# EAGLE library part CON_6P (library FlukeNic)
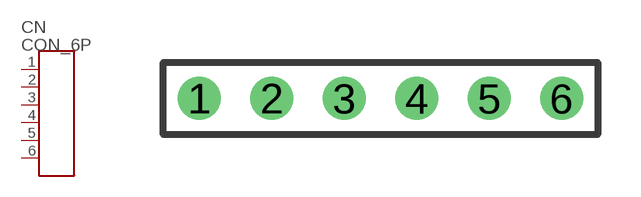
[diagram p10: symbol with the pads of CON_HDR_SIP6; footprint CON_HDR_SIP6]

Designator prefix CN

## CON_6P  [CON_HDR_SIP6]
1  1  pas
2  2  pas
3  3  pas
4  4  pas
5  5  pas
6  6  pas

## Footprint CON_HDR_SIP6 (pad centres in mm)
drill 1: 1 -6.35,0; 2 -3.81,0; 3 -1.27,0; 4 1.27,0; 5 3.81,0; 6 6.35,0